# Altium footprint library Package_SO.PcbLib: 393 footprints (part 14 of 25)
Each footprint in its own frame and in the unit in brackets; x right, y up, seen from the top. Pads: shape width x height; smd on the part's side, far side on the other; paste and mask are expansions set on the pad; w line width, h text height; cw(c..) or ccw(c..) is an arc to the next point about the centre after c.
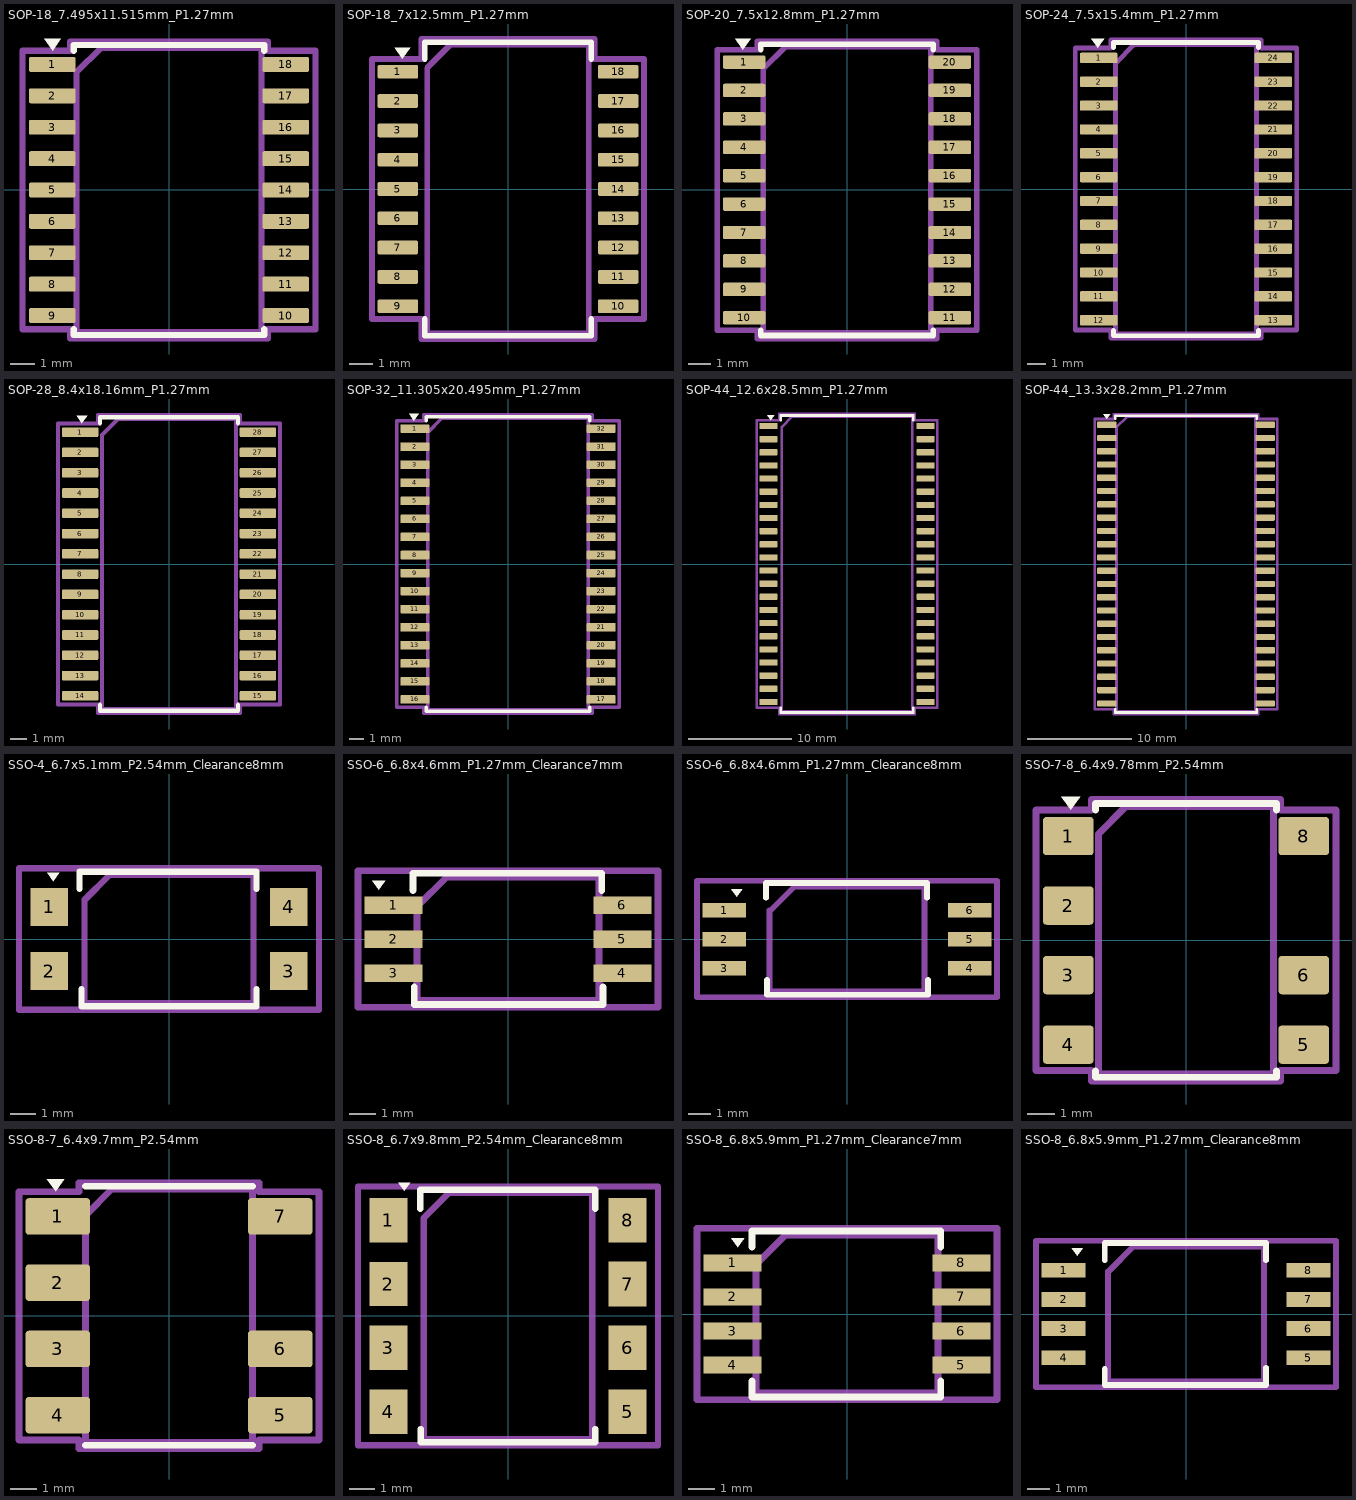
[diagram p13: the footprints below, top view; thin cyan lines are the x and y axes]

## SOP-18_7.495x11.515mm_P1.27mm [mm]
pads (18):
  rrect25% 1.9x0.6 smd: 1(-4.725,5.08) 2(-4.725,3.81) 3(-4.725,2.54) 4(-4.725,1.27) 5(-4.725,0) 6(-4.725,-1.27) 7(-4.725,-2.54) 8(-4.725,-3.81) 9(-4.725,-5.08) 10(4.725,-5.08) 11(4.725,-3.81) 12(4.725,-2.54) 13(4.725,-1.27) 14(4.725,0) 15(4.725,1.27) 16(4.725,2.54) 17(4.725,3.81) 18(4.725,5.08)
F.SilkS:
  region: -4.711,5.64 -5.051,6.11 -4.371,6.11
  lines w0.254: -3.858,-5.64 -3.858,-5.867 0,-5.867 3.858,-5.867 3.858,-5.64 ; -3.858,5.64 -3.858,5.867 0,5.867 3.858,5.867 3.858,5.64
Top Assembly:
  lines w0.254: -3.748,-5.757 3.748,-5.757 3.748,5.757 -2.748,5.757 -3.748,4.757 -3.748,-5.757
  text "'.Designator'" at -4.047,-0.84 h1
Top Courtyard:
  lines w0.254: -5.93,-5.63 -4,-5.63 -4,-6.01 4,-6.01 4,-5.63 5.93,-5.63 5.93,5.63 4,5.63 4,6.01 -4,6.01 -4,5.63 -5.93,5.63 -5.93,-5.63
Top Designator:
  text ".Designator" at -7.618,-0.508 h1.52

## SOP-18_7x12.5mm_P1.27mm [mm]
pads (18):
  rrect25% 1.75x0.6 smd: 1(-4.775,5.08) 2(-4.775,3.81) 3(-4.775,2.54) 4(-4.775,1.27) 5(-4.775,0) 6(-4.775,-1.27) 7(-4.775,-2.54) 8(-4.775,-3.81) 9(-4.775,-5.08) 10(4.775,-5.08) 11(4.775,-3.81) 12(4.775,-2.54) 13(4.775,-1.27) 14(4.775,0) 15(4.775,1.27) 16(4.775,2.54) 17(4.775,3.81) 18(4.775,5.08)
F.SilkS:
  region: -4.575,5.64 -4.915,6.11 -4.235,6.11
  lines w0.254: -3.61,-5.64 -3.61,-6.36 0,-6.36 3.61,-6.36 3.61,-5.64 ; -3.61,5.64 -3.61,6.36 0,6.36 3.61,6.36 3.61,5.64
Top Assembly:
  lines w0.254: -3.5,-6.25 3.5,-6.25 3.5,6.25 -2.5,6.25 -3.5,5.25 -3.5,-6.25
  text "'.Designator'" at -4.047,-0.84 h1
Top Courtyard:
  lines w0.254: -5.9,-5.63 -3.75,-5.63 -3.75,-6.5 3.75,-6.5 3.75,-5.63 5.9,-5.63 5.9,5.63 3.75,5.63 3.75,6.5 -3.75,6.5 -3.75,5.63 -5.9,5.63 -5.9,-5.63
Top Designator:
  text ".Designator" at -7.618,-0.508 h1.52

## SOP-20_7.5x12.8mm_P1.27mm [mm]
pads (20):
  rrect25% 1.9x0.6 smd: 1(-4.6,5.715) 2(-4.6,4.445) 3(-4.6,3.175) 4(-4.6,1.905) 5(-4.6,0.635) 6(-4.6,-0.635) 7(-4.6,-1.905) 8(-4.6,-3.175) 9(-4.6,-4.445) 10(-4.6,-5.715) 11(4.6,-5.715) 12(4.6,-4.445) 13(4.6,-3.175) 14(4.6,-1.905) 15(4.6,-0.635) 16(4.6,0.635) 17(4.6,1.905) 18(4.6,3.175) 19(4.6,4.445) 20(4.6,5.715)
F.SilkS:
  region: -4.65,6.275 -4.99,6.745 -4.31,6.745
  lines w0.254: -3.86,-6.275 -3.86,-6.51 0,-6.51 3.86,-6.51 3.86,-6.275 ; -3.86,6.275 -3.86,6.51 0,6.51 3.86,6.51 3.86,6.275
Top Assembly:
  lines w0.254: -3.75,-6.4 3.75,-6.4 3.75,6.4 -2.75,6.4 -3.75,5.4 -3.75,-6.4
  text "'.Designator'" at -4.047,-0.84 h1
Top Courtyard:
  lines w0.254: -5.8,-6.27 -4,-6.27 -4,-6.65 4,-6.65 4,-6.27 5.8,-6.27 5.8,6.27 4,6.27 4,6.65 -4,6.65 -4,6.27 -5.8,6.27 -5.8,-6.27
Top Designator:
  text ".Designator" at -7.618,-0.508 h1.52

## SOP-24_7.5x15.4mm_P1.27mm [mm]
pads (24):
  rrect25% 2x0.55 smd: 1(-4.65,6.985) 2(-4.65,5.715) 3(-4.65,4.445) 4(-4.65,3.175) 5(-4.65,1.905) 6(-4.65,0.635) 7(-4.65,-0.635) 8(-4.65,-1.905) 9(-4.65,-3.175) 10(-4.65,-4.445) 11(-4.65,-5.715) 12(-4.65,-6.985) 13(4.65,-6.985) 14(4.65,-5.715) 15(4.65,-4.445) 16(4.65,-3.175) 17(4.65,-1.905) 18(4.65,-0.635) 19(4.65,0.635) 20(4.65,1.905) 21(4.65,3.175) 22(4.65,4.445) 23(4.65,5.715) 24(4.65,6.985)
F.SilkS:
  region: -4.7,7.52 -5.04,7.99 -4.36,7.99
  lines w0.254: -3.86,-7.52 -3.86,-7.81 0,-7.81 3.86,-7.81 3.86,-7.52 ; -3.86,7.52 -3.86,7.81 0,7.81 3.86,7.81 3.86,7.52
Top Assembly:
  lines w0.254: -3.75,-7.7 3.75,-7.7 3.75,7.7 -2.75,7.7 -3.75,6.7 -3.75,-7.7
  text "'.Designator'" at -4.047,-0.84 h1
Top Courtyard:
  lines w0.254: -5.9,-7.51 -4,-7.51 -4,-7.95 4,-7.95 4,-7.51 5.9,-7.51 5.9,7.51 4,7.51 4,7.95 -4,7.95 -4,7.51 -5.9,7.51 -5.9,-7.51
Top Designator:
  text ".Designator" at -7.618,-0.508 h1.52

## SOP-28_8.4x18.16mm_P1.27mm [mm]
pads (28):
  rrect25% 2.275x0.6 smd: 1(-5.563,8.255) 2(-5.563,6.985) 3(-5.563,5.715) 4(-5.563,4.445) 5(-5.563,3.175) 6(-5.563,1.905) 7(-5.563,0.635) 8(-5.563,-0.635) 9(-5.563,-1.905) 10(-5.563,-3.175) 11(-5.563,-4.445) 12(-5.563,-5.715) 13(-5.563,-6.985) 14(-5.563,-8.255) 15(5.563,-8.255) 16(5.563,-6.985) 17(5.563,-5.715) 18(5.563,-4.445) 19(5.563,-3.175) 20(5.563,-1.905) 21(5.563,-0.635) 22(5.563,0.635) 23(5.563,1.905) 24(5.563,3.175) 25(5.563,4.445) 26(5.563,5.715) 27(5.563,6.985) 28(5.563,8.255)
F.SilkS:
  region: -5.45,8.815 -5.79,9.285 -5.11,9.285
  lines w0.254: -4.31,-8.815 -4.31,-9.19 0,-9.19 4.31,-9.19 4.31,-8.815 ; -4.31,8.815 -4.31,9.19 0,9.19 4.31,9.19 4.31,8.815
Top Assembly:
  lines w0.254: -4.2,-9.08 4.2,-9.08 4.2,9.08 -3.2,9.08 -4.2,8.08 -4.2,-9.08
  text "'.Designator'" at -4.047,-0.84 h1
Top Courtyard:
  lines w0.254: -6.95,-8.81 -4.45,-8.81 -4.45,-9.33 4.45,-9.33 4.45,-8.81 6.95,-8.81 6.95,8.81 4.45,8.81 4.45,9.33 -4.45,9.33 -4.45,8.81 -6.95,8.81 -6.95,-8.81
Top Designator:
  text ".Designator" at -7.618,-0.508 h1.52

## SOP-32_11.305x20.495mm_P1.27mm [mm]
pads (32):
  rrect25% 2.05x0.6 smd: 1(-6.55,9.525) 2(-6.55,8.255) 3(-6.55,6.985) 4(-6.55,5.715) 5(-6.55,4.445) 6(-6.55,3.175) 7(-6.55,1.905) 8(-6.55,0.635) 9(-6.55,-0.635) 10(-6.55,-1.905) 11(-6.55,-3.175) 12(-6.55,-4.445) 13(-6.55,-5.715) 14(-6.55,-6.985) 15(-6.55,-8.255) 16(-6.55,-9.525) 17(6.55,-9.525) 18(6.55,-8.255) 19(6.55,-6.985) 20(6.55,-5.715) 21(6.55,-4.445) 22(6.55,-3.175) 23(6.55,-1.905) 24(6.55,-0.635) 25(6.55,0.635) 26(6.55,1.905) 27(6.55,3.175) 28(6.55,4.445) 29(6.55,5.715) 30(6.55,6.985) 31(6.55,8.255) 32(6.55,9.525)
F.SilkS:
  region: -6.614,10.085 -6.954,10.555 -6.274,10.555
  lines w0.254: -5.763,-10.085 -5.763,-10.358 0,-10.358 5.763,-10.358 5.763,-10.085 ; -5.763,10.085 -5.763,10.358 0,10.358 5.763,10.358 5.763,10.085
Top Assembly:
  lines w0.254: -5.653,-10.248 5.653,-10.248 5.653,10.248 -4.653,10.248 -5.653,9.247 -5.653,-10.248
  text "'.Designator'" at -4.047,-0.84 h1
Top Courtyard:
  lines w0.254: -7.83,-10.08 -5.91,-10.08 -5.91,-10.5 5.91,-10.5 5.91,-10.08 7.83,-10.08 7.83,10.08 5.91,10.08 5.91,10.5 -5.91,10.5 -5.91,10.08 -7.83,10.08 -7.83,-10.08
Top Designator:
  text ".Designator" at -7.618,-0.508 h1.52

## SOP-44_12.6x28.5mm_P1.27mm [mm]
pads (44):
  rrect25% 1.75x0.6 smd: 1(-7.6,13.335) 2(-7.6,12.065) 3(-7.6,10.795) 4(-7.6,9.525) 5(-7.6,8.255) 6(-7.6,6.985) 7(-7.6,5.715) 8(-7.6,4.445) 9(-7.6,3.175) 10(-7.6,1.905) 11(-7.6,0.635) 12(-7.6,-0.635) 13(-7.6,-1.905) 14(-7.6,-3.175) 15(-7.6,-4.445) 16(-7.6,-5.715) 17(-7.6,-6.985) 18(-7.6,-8.255) 19(-7.6,-9.525) 20(-7.6,-10.795) 21(-7.6,-12.065) 22(-7.6,-13.335) 23(7.6,-13.335) 24(7.6,-12.065) 25(7.6,-10.795) 26(7.6,-9.525) 27(7.6,-8.255) 28(7.6,-6.985) 29(7.6,-5.715) 30(7.6,-4.445) 31(7.6,-3.175) 32(7.6,-1.905) 33(7.6,-0.635) 34(7.6,0.635) 35(7.6,1.905) 36(7.6,3.175) 37(7.6,4.445) 38(7.6,5.715) 39(7.6,6.985) 40(7.6,8.255) 41(7.6,9.525) 42(7.6,10.795) 43(7.6,12.065) 44(7.6,13.335)
F.SilkS:
  region: -7.388,13.895 -7.728,14.365 -7.047,14.365
  lines w0.254: -6.41,-13.895 -6.41,-14.36 0,-14.36 6.41,-14.36 6.41,-13.895 ; -6.41,13.895 -6.41,14.36 0,14.36 6.41,14.36 6.41,13.895
Top Assembly:
  lines w0.254: -6.3,-14.25 6.3,-14.25 6.3,14.25 -5.3,14.25 -6.3,13.25 -6.3,-14.25
  text "'.Designator'" at -4.047,-0.84 h1
Top Courtyard:
  lines w0.254: -8.73,-13.89 -6.55,-13.89 -6.55,-14.5 6.55,-14.5 6.55,-13.89 8.73,-13.89 8.73,13.89 6.55,13.89 6.55,14.5 -6.55,14.5 -6.55,13.89 -8.73,13.89 -8.73,-13.89
Top Designator:
  text ".Designator" at -7.618,-0.508 h1.52

## SOP-44_13.3x28.2mm_P1.27mm [mm]
pads (44):
  rrect25% 1.85x0.6 smd: 1(-7.575,13.335) 2(-7.575,12.065) 3(-7.575,10.795) 4(-7.575,9.525) 5(-7.575,8.255) 6(-7.575,6.985) 7(-7.575,5.715) 8(-7.575,4.445) 9(-7.575,3.175) 10(-7.575,1.905) 11(-7.575,0.635) 12(-7.575,-0.635) 13(-7.575,-1.905) 14(-7.575,-3.175) 15(-7.575,-4.445) 16(-7.575,-5.715) 17(-7.575,-6.985) 18(-7.575,-8.255) 19(-7.575,-9.525) 20(-7.575,-10.795) 21(-7.575,-12.065) 22(-7.575,-13.335) 23(7.575,-13.335) 24(7.575,-12.065) 25(7.575,-10.795) 26(7.575,-9.525) 27(7.575,-8.255) 28(7.575,-6.985) 29(7.575,-5.715) 30(7.575,-4.445) 31(7.575,-3.175) 32(7.575,-1.905) 33(7.575,-0.635) 34(7.575,0.635) 35(7.575,1.905) 36(7.575,3.175) 37(7.575,4.445) 38(7.575,5.715) 39(7.575,6.985) 40(7.575,8.255) 41(7.575,9.525) 42(7.575,10.795) 43(7.575,12.065) 44(7.575,13.335)
F.SilkS:
  region: -7.575,13.895 -7.915,14.365 -7.235,14.365
  lines w0.254: -6.76,-13.895 -6.76,-14.21 0,-14.21 6.76,-14.21 6.76,-13.895 ; -6.76,13.895 -6.76,14.21 0,14.21 6.76,14.21 6.76,13.895
Top Assembly:
  lines w0.254: -6.65,-14.1 6.65,-14.1 6.65,14.1 -5.65,14.1 -6.65,13.1 -6.65,-14.1
  text "'.Designator'" at -4.047,-0.84 h1
Top Courtyard:
  lines w0.254: -8.75,-13.89 -6.9,-13.89 -6.9,-14.35 6.9,-14.35 6.9,-13.89 8.75,-13.89 8.75,13.89 6.9,13.89 6.9,14.35 -6.9,14.35 -6.9,13.89 -8.75,13.89 -8.75,-13.89
Top Designator:
  text ".Designator" at -7.618,-0.508 h1.52

## SSO-4_6.7x5.1mm_P2.54mm_Clearance8mm [mm]
pads (4):
  rect 1.5x1.5 smd: 1(-4.75,1.27) 2(-4.75,-1.27) 3(4.75,-1.27) 4(4.75,1.27)
F.SilkS:
  region: -4.595,2.3 -4.835,2.63 -4.355,2.63
  lines w0.254: -3.55,2 -3.55,2.67 3.47,2.67 3.47,2 ; -3.47,-2 -3.47,-2.67 3.47,-2.67 3.47,-2
Top Assembly:
  lines w0.254: -3.35,-2.55 3.35,-2.55 3.35,2.55 -2.35,2.55 -3.35,1.55 -3.35,-2.55
  text "'.Designator'" at -4.047,-0.84 h1
Top Courtyard:
  lines w0.254: -5.95,-2.8 5.95,-2.8 5.95,2.8 -5.95,2.8 -5.95,-2.8
Top Designator:
  text ".Designator" at -7.618,-0.508 h1.52

## SSO-6_6.8x4.6mm_P1.27mm_Clearance7mm [mm]
pads (6):
  rect 2.16x0.64 smd: 1(-4.27,1.27) 2(-4.27,0) 3(-4.27,-1.27) 4(4.27,-1.27) 5(4.27,0) 6(4.27,1.27)
F.SilkS:
  region: -4.825,1.85 -5.065,2.18 -4.585,2.18
  lines w0.254: -3.55,1.815 -3.55,2.465 3.5,2.465 3.5,1.815 ; -3.5,-1.785 -3.5,-2.435 3.55,-2.435 3.55,-1.785
Top Assembly:
  lines w0.254: -3.4,1.215 -2.3,2.315 3.4,2.315 3.4,-2.285 -3.4,-2.285 -3.4,1.265
  text "'.Designator'" at -4.047,-0.775 h1
Top Courtyard:
  lines w0.254: -5.6,-2.54 5.6,-2.54 5.6,2.56 -5.6,2.56 -5.6,-2.54
Top Designator:
  text ".Designator" at -7.618,-0.498 h1.52

## SSO-6_6.8x4.6mm_P1.27mm_Clearance8mm [mm]
pads (6):
  rect 1.9x0.64 smd: 1(-5.37,1.27) 2(-5.37,0) 3(-5.37,-1.27) 4(5.37,-1.27) 5(5.37,0) 6(5.37,1.27)
F.SilkS:
  region: -4.825,1.85 -5.065,2.18 -4.585,2.18
  lines w0.254: -3.55,1.815 -3.55,2.465 3.5,2.465 3.5,1.815 ; -3.5,-1.785 -3.5,-2.435 3.55,-2.435 3.55,-1.785
Top Assembly:
  lines w0.254: -3.4,1.215 -2.3,2.315 3.4,2.315 3.4,-2.285 -3.4,-2.285 -3.4,1.265
  text "'.Designator'" at -4.047,-0.775 h1
Top Courtyard:
  lines w0.254: -6.57,-2.54 6.57,-2.54 6.57,2.56 -6.57,2.56 -6.57,-2.54
Top Designator:
  text ".Designator" at -7.618,-0.498 h1.52

## SSO-7-8_6.4x9.78mm_P2.54mm [mm]
pads (7):
  rrect18% 1.85x1.4 smd: 1(-4.3,3.81) 2(-4.3,1.27) 3(-4.3,-1.27) 4(-4.3,-3.81) 5(4.3,-3.81) 6(4.3,-1.27) 8(4.3,3.81)
F.SilkS:
  region: -4.213,4.77 -4.553,5.24 -3.872,5.24
  lines w0.254: -3.31,-4.77 -3.31,-5 0,-5 3.31,-5 3.31,-4.77 ; -3.31,4.77 -3.31,5 0,5 3.31,5 3.31,4.77
Top Assembly:
  lines w0.254: -3.2,-4.89 3.2,-4.89 3.2,4.89 -2.2,4.89 -3.2,3.89 -3.2,-4.89
  text "'.Designator'" at -4.047,-0.84 h1
Top Courtyard:
  lines w0.254: -5.48,-4.76 -3.45,-4.76 -3.45,-5.14 3.45,-5.14 3.45,-4.76 5.48,-4.76 5.48,4.76 3.45,4.76 3.45,5.14 -3.45,5.14 -3.45,4.76 -5.48,4.76 -5.48,-4.76
Top Designator:
  text ".Designator" at -7.618,-0.508 h1.52

## SSO-8-7_6.4x9.7mm_P2.54mm [mm]
pads (7):
  rrect18% 2.475x1.4 smd: 1(-4.263,3.81) 2(-4.263,1.27) 3(-4.263,-1.27) 4(-4.263,-3.81) 5(4.263,-3.81) 6(4.263,-1.27) 7(4.263,3.81)
F.SilkS:
  region: -4.35,4.77 -4.69,5.24 -4.01,5.24
  lines w0.254: -3.2,-4.96 0,-4.96 3.2,-4.96 ; -3.2,4.96 0,4.96 3.2,4.96
Top Assembly:
  lines w0.254: -3.2,-4.85 3.2,-4.85 3.2,4.85 -2.2,4.85 -3.2,3.85 -3.2,-4.85
  text "'.Designator'" at -4.047,-0.84 h1
Top Courtyard:
  lines w0.254: -5.75,-4.76 -3.45,-4.76 -3.45,-5.1 3.45,-5.1 3.45,-4.76 5.75,-4.76 5.75,4.76 3.45,4.76 3.45,5.1 -3.45,5.1 -3.45,4.76 -5.75,4.76 -5.75,-4.76
Top Designator:
  text ".Designator" at -7.618,-0.501 h1.52

## SSO-8_6.7x9.8mm_P2.54mm_Clearance8mm [mm]
pads (8):
  rect 1.52x1.78 smd: 1(-4.76,3.81) 3(-4.76,-1.27) 4(-4.76,-3.81) 5(4.76,-3.81) 6(4.76,-1.27) 7(4.76,1.27) 8(4.76,3.81)
  rect 1.52x1.75 smd: 2(-4.76,1.27)
F.SilkS:
  region: -4.125,4.975 -4.365,5.305 -3.885,5.305
  lines w0.254: -3.5,4.26 -3.5,5.02 3.47,5.02 3.47,4.26 ; -3.47,-4.5 -3.47,-5.02 3.47,-5.02 3.47,-4.5
Top Assembly:
  lines w0.254: -3.35,-4.9 3.35,-4.9 3.35,4.9 -2.35,4.9 -3.35,3.9 -3.35,-4.9
  text "'.Designator'" at -4.047,-0.84 h1
Top Courtyard:
  lines w0.254: -5.97,-5.15 5.97,-5.15 5.97,5.15 -5.97,5.15 -5.97,-5.15
Top Designator:
  text ".Designator" at -7.618,-0.494 h1.52

## SSO-8_6.8x5.9mm_P1.27mm_Clearance7mm [mm]
pads (8):
  rect 2.16x0.64 smd: 1(-4.27,1.905) 2(-4.27,0.635) 3(-4.27,-0.635) 4(-4.27,-1.905) 5(4.27,-1.905) 6(4.27,-0.635) 7(4.27,0.635) 8(4.27,1.905)
F.SilkS:
  region: -4.075,2.5 -4.315,2.83 -3.835,2.83
  lines w0.254: -3.55,-2.5 -3.55,-3.1 3.5,-3.1 3.5,-2.5 ; -3.55,2.5 -3.55,3.1 3.5,3.1 3.5,2.5
Top Assembly:
  lines w0.254: -3.4,-2.95 3.4,-2.95 3.4,2.95 -2.3,2.95 -3.4,1.85 -3.4,-2.95
  text "'.Designator'" at -4.047,-0.84 h1
Top Courtyard:
  lines w0.254: -5.6,-3.2 5.6,-3.2 5.6,3.2 -5.6,3.2 -5.6,-3.2
Top Designator:
  text ".Designator" at -7.618,-0.508 h1.52

## SSO-8_6.8x5.9mm_P1.27mm_Clearance8mm [mm]
pads (8):
  rect 1.905x0.64 smd: 1(-5.348,1.905) 2(-5.348,0.635) 3(-5.348,-0.635) 4(-5.348,-1.905) 5(5.348,-1.905) 6(5.348,-0.635) 7(5.348,0.635) 8(5.348,1.905)
F.SilkS:
  region: -4.75,2.55 -4.99,2.88 -4.51,2.88
  lines w0.254: -3.55,-2.4 -3.55,-3.1 3.5,-3.1 3.5,-2.35 ; -3.55,2.35 -3.55,3.1 3.5,3.1 3.5,2.35
Top Assembly:
  lines w0.254: -3.4,-2.95 3.4,-2.95 3.4,2.95 -2.3,2.95 -3.4,1.85 -3.4,-2.95
  text "'.Designator'" at -4.047,-0.84 h1
Top Courtyard:
  lines w0.254: -6.55,-3.2 6.55,-3.2 6.55,3.2 -6.55,3.2 -6.55,-3.2
Top Designator:
  text ".Designator" at -7.618,-0.508 h1.52